# Altium integrated library TI Power Management Current Limited Switch.IntLib: 83 symbols (part 1 of 4)
Pins are listed as number, name and electrical type; pins without a type are passive.

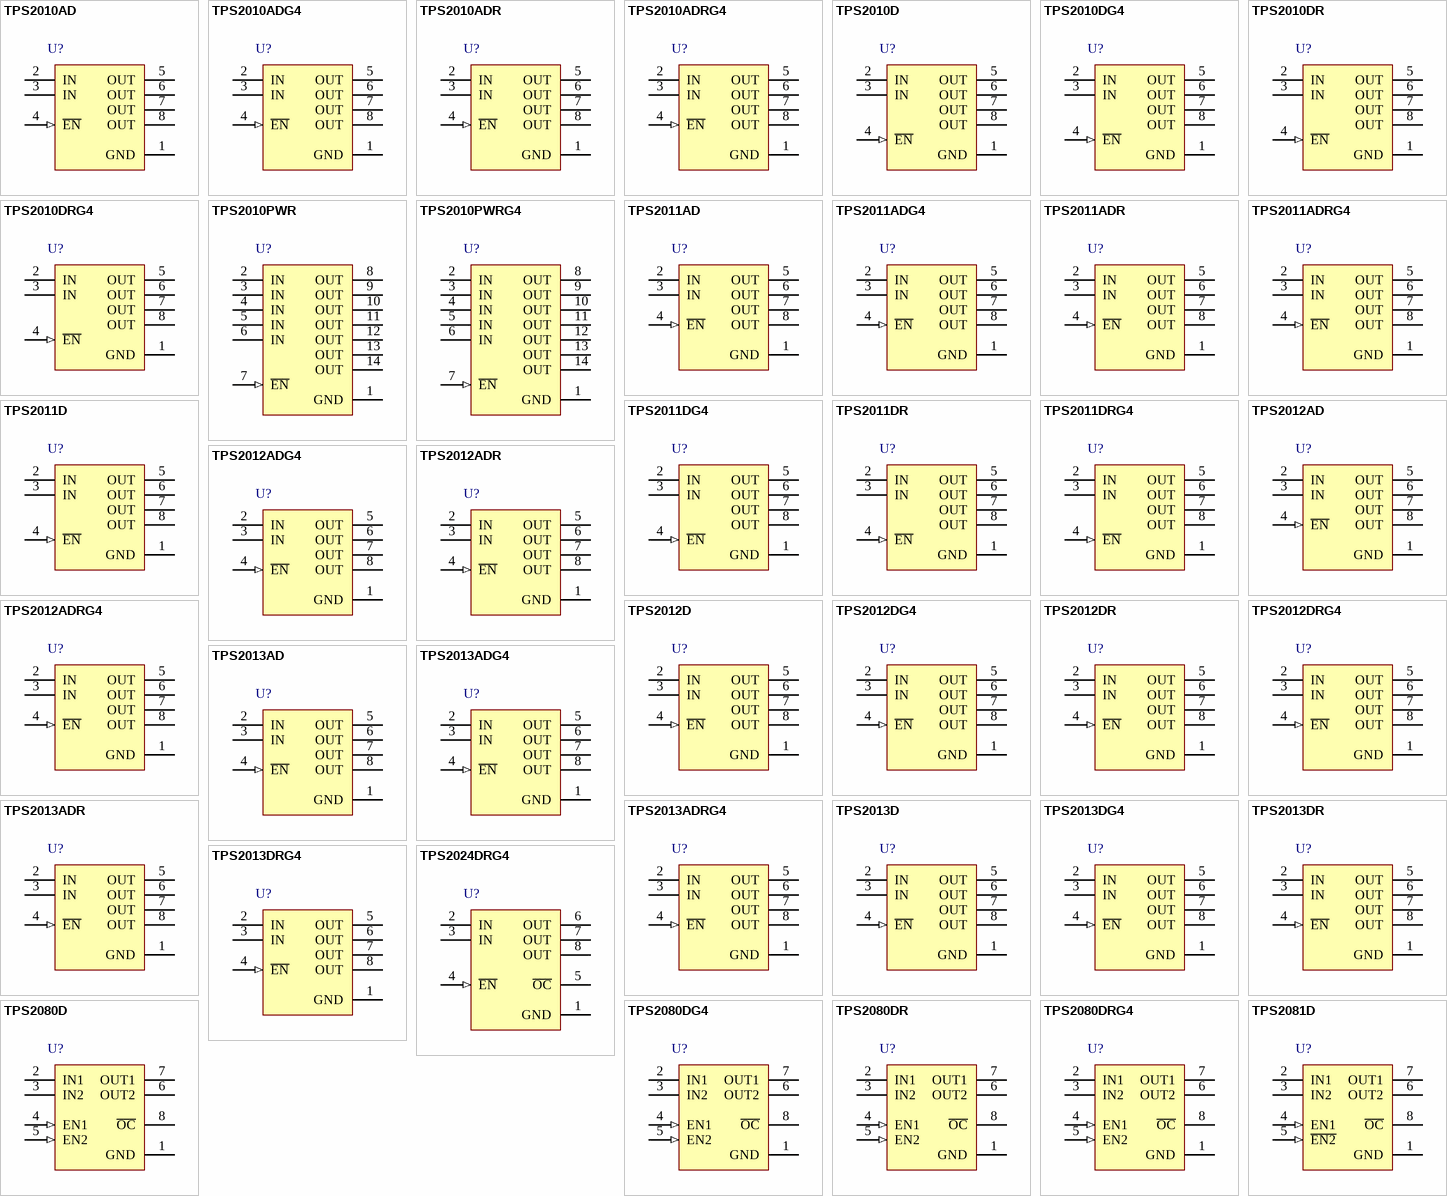
[diagram p0: symbols TPS2010AD to TPS2081D]

## TPS2010AD
designator U?
0.4 A, 2.7 to 5.5 V Single High-Side MOSFET Switch IC, No Fault Reporting, 30 mOhms rDS(on), -40 to 85 degC, 8-pin SOIC (D), Green (RoHS & no Sb/Br); Manufacturer: Texas Instruments; PartNumber: TPS2010AD; Adjustable Current Limit(Min)(A): 0.22; Enable/Shutdown: 1L; Iq(Typ)(uA): 73; No Fault Reporting: TRUE; Number of FETs: 1; rDS(on) per FET(Typ)(mOhms): 30; SubFamily: Current Limited Switch; Vin(Max)(V): 5.5; Vin(Min)(V): 2.7; DatasheetVersion: SLVS189C; PackageVersion: revM, Jun-2011; PackageReference: D8; PackageDescription: 8-Pin Plastic Small Outline Integrated Circuit, 4.9 x 3.9 mm, Pitch 1.27 mm Pitch; Supplier 1: Digi-Key; Supplier Part Number 1: 296-2555-5-ND; Supplier 2: Newark; Supplier Part Number 2: 93B6517; Supplier 3: Mouser; Supplier Part Number 3: 595-TPS2010AD; Eco-Plan: Green (RoHS & no Sb/Br); Single: TRUE; Mounting Technology: Surface Mount; Code_JEDEC: MS-012AA; ComponentLink1Description: Datasheet; ComponentLink1URL: http://www.ti.com/general/docs/lit/getliterature.tsp?genericPartNumber=TPS2010A&fileType=pdf
footprint D8_N (SOIC, 8-Leads, Body 4.9x3.9mm, Pitch 1.27mm, IPC Medium Density)
footprint D8_L (SOIC, 8-Leads, Body 4.9x3.9mm, Pitch 1.27mm, IPC High Density)
footprint D8_M (SOIC, 8-Leads, Body 4.9x3.9mm, Pitch 1.27mm, IPC Low Density)
pins: 1 GND (power) "Ground", 2 IN (power) "Input voltage", 3 IN (power) "Input voltage", 4 ~{EN} (in) "Enable input. Logic low turns on power switch.", 5 OUT (power) "Power-switch output", 6 OUT (power) "Power-switch output", 7 OUT (power) "Power-switch output", 8 OUT (power) "Power-switch output"

## TPS2010ADG4
designator U?
0.4 A, 2.7 to 5.5 V Single High-Side MOSFET Switch IC, No Fault Reporting, 30 mOhms rDS(on), 8-pin SOIC (D), Green (RoHS & no Sb/Br); Manufacturer: Texas Instruments; PartNumber: TPS2010ADG4; Adjustable Current Limit(Min)(A): 0.22; Enable/Shutdown: 1L; Iq(Typ)(uA): 73; No Fault Reporting: TRUE; Number of FETs: 1; rDS(on) per FET(Typ)(mOhms): 30; SubFamily: Current Limited Switch; Vin(Max)(V): 5.5; Vin(Min)(V): 2.7; DatasheetVersion: SLVS189C; PackageVersion: revM, Jun-2011; PackageReference: D8; PackageDescription: 8-Pin Plastic Small Outline Integrated Circuit, 4.9 x 3.9 mm, Pitch 1.27 mm Pitch; Supplier 1: Digi-Key; Supplier Part Number 1: TPS2010ADG4-ND; Supplier 2: Newark; Supplier Part Number 2: 58K6886; Supplier 3: Mouser; Supplier Part Number 3: 595-TPS2010ADG4; Eco-Plan: Green (RoHS & no Sb/Br); Single: TRUE; Mounting Technology: Surface Mount; Code_JEDEC: MS-012AA; ComponentLink1Description: Datasheet; ComponentLink1URL: http://www.ti.com/general/docs/lit/getliterature.tsp?genericPartNumber=TPS2010A&fileType=pdf
footprint D8_N (SOIC, 8-Leads, Body 4.9x3.9mm, Pitch 1.27mm, IPC Medium Density)
footprint D8_L (SOIC, 8-Leads, Body 4.9x3.9mm, Pitch 1.27mm, IPC High Density)
footprint D8_M (SOIC, 8-Leads, Body 4.9x3.9mm, Pitch 1.27mm, IPC Low Density)
pins: 1 GND (power) "Ground", 2 IN (power) "Input voltage", 3 IN (power) "Input voltage", 4 ~{EN} (in) "Enable input. Logic low turns on power switch.", 5 OUT (power) "Power-switch output", 6 OUT (power) "Power-switch output", 7 OUT (power) "Power-switch output", 8 OUT (power) "Power-switch output"

## TPS2010ADR
designator U?
0.4 A, 2.7 to 5.5 V Single High-Side MOSFET Switch IC, No Fault Reporting, 30 mOhms rDS(on), -40 to 85 degC, 8-pin SOIC (D), Green (RoHS & no Sb/Br); Manufacturer: Texas Instruments; PartNumber: TPS2010ADR; Adjustable Current Limit(Min)(A): 0.22; Enable/Shutdown: 1L; Iq(Typ)(uA): 73; No Fault Reporting: TRUE; Number of FETs: 1; rDS(on) per FET(Typ)(mOhms): 30; SubFamily: Current Limited Switch; Vin(Max)(V): 5.5; Vin(Min)(V): 2.7; DatasheetVersion: SLVS189C; PackageVersion: revM, Jun-2011; PackageReference: D8; PackageDescription: 8-Pin Plastic Small Outline Integrated Circuit, 4.9 x 3.9 mm, Pitch 1.27 mm Pitch; Supplier 1: Digi-Key; Supplier Part Number 1: TPS2010ADR-ND; Supplier 2: Newark; Supplier Part Number 2: 76C9939; Supplier 3: Mouser; Supplier Part Number 3: 595-TPS2010ADR; Eco-Plan: Green (RoHS & no Sb/Br); Single: TRUE; Mounting Technology: Surface Mount; Code_JEDEC: MS-012AA; ComponentLink1Description: Datasheet; ComponentLink1URL: http://www.ti.com/general/docs/lit/getliterature.tsp?genericPartNumber=TPS2010A&fileType=pdf
footprint D8_N (SOIC, 8-Leads, Body 4.9x3.9mm, Pitch 1.27mm, IPC Medium Density)
footprint D8_L (SOIC, 8-Leads, Body 4.9x3.9mm, Pitch 1.27mm, IPC High Density)
footprint D8_M (SOIC, 8-Leads, Body 4.9x3.9mm, Pitch 1.27mm, IPC Low Density)
pins: 1 GND (power) "Ground", 2 IN (power) "Input voltage", 3 IN (power) "Input voltage", 4 ~{EN} (in) "Enable input. Logic low turns on power switch.", 5 OUT (power) "Power-switch output", 6 OUT (power) "Power-switch output", 7 OUT (power) "Power-switch output", 8 OUT (power) "Power-switch output"

## TPS2010ADRG4
designator U?
0.4 A, 2.7 to 5.5 V Single High-Side MOSFET Switch IC, No Fault Reporting, 30 mOhms rDS(on), -40 to 85 degC, 8-pin SOIC (D), Green (RoHS & no Sb/Br); Manufacturer: Texas Instruments; PartNumber: TPS2010ADRG4; Adjustable Current Limit(Min)(A): 0.22; Enable/Shutdown: 1L; Iq(Typ)(uA): 73; No Fault Reporting: TRUE; Number of FETs: 1; rDS(on) per FET(Typ)(mOhms): 30; SubFamily: Current Limited Switch; Vin(Max)(V): 5.5; Vin(Min)(V): 2.7; DatasheetVersion: SLVS189C; PackageVersion: revM, Jun-2011; PackageReference: D8; PackageDescription: 8-Pin Plastic Small Outline Integrated Circuit, 4.9 x 3.9 mm, Pitch 1.27 mm Pitch; Supplier 1: Digi-Key; Supplier Part Number 1: TPS2010ADRG4-ND; Supplier 2: Newark; Supplier Part Number 2: 33K7505; Supplier 3: Mouser; Supplier Part Number 3: 595-TPS2010ADRG4; Eco-Plan: Green (RoHS & no Sb/Br); Single: TRUE; Mounting Technology: Surface Mount; Code_JEDEC: MS-012AA; ComponentLink1Description: Datasheet; ComponentLink1URL: http://www.ti.com/general/docs/lit/getliterature.tsp?genericPartNumber=TPS2010A&fileType=pdf
footprint D8_N (SOIC, 8-Leads, Body 4.9x3.9mm, Pitch 1.27mm, IPC Medium Density)
footprint D8_L (SOIC, 8-Leads, Body 4.9x3.9mm, Pitch 1.27mm, IPC High Density)
footprint D8_M (SOIC, 8-Leads, Body 4.9x3.9mm, Pitch 1.27mm, IPC Low Density)
pins: 1 GND (power) "Ground", 2 IN (power) "Input voltage", 3 IN (power) "Input voltage", 4 ~{EN} (in) "Enable input. Logic low turns on power switch.", 5 OUT (power) "Power-switch output", 6 OUT (power) "Power-switch output", 7 OUT (power) "Power-switch output", 8 OUT (power) "Power-switch output"

## TPS2010D
designator U?
0.4 A, 2.7 to 5.5 V Single High-Side MOSFET Switch IC, No Fault Reporting, 75 mOhms rDS(On), -40 to 85 degC, 8-pin SOIC (D), Green (RoHS & no Sb/Br); Manufacturer: Texas Instruments; PartNumber: TPS2010D; Adjustable Current Limit(Min)(A): 0.22; Enable/Shutdown: 1L; Iq(Typ)(uA): 73; No Fault Reporting: TRUE; Number of FETs: 1; rDS(on) per FET(Typ)(mOhms): 75; SubFamily: Current Limited Switch; Vin(Max)(V): 5.5; Vin(Min)(V): 2.7; DatasheetVersion: SLVS097A; PackageVersion: revM, Jun-2011; PackageReference: D8; PackageDescription: 8-Pin Plastic Small Outline Integrated Circuit, 4.9 x 3.9 mm, Pitch 1.27 mm Pitch; Supplier 1: Digi-Key; Supplier Part Number 1: 296-34581-5-ND; Supplier 2: Newark; Supplier Part Number 2: 52F2788; Supplier 3: Mouser; Supplier Part Number 3: 595-TPS2010D; Eco-Plan: Green (RoHS & no Sb/Br); Single: TRUE; Mounting Technology: Surface Mount; Code_JEDEC: MS-012AA; ComponentLink1Description: Datasheet; ComponentLink1URL: http://www.ti.com/general/docs/lit/getliterature.tsp?genericPartNumber=TPS2010&fileType=pdf
footprint D8_N (SOIC, 8-Leads, Body 4.9x3.9mm, Pitch 1.27mm, IPC Medium Density)
footprint D8_L (SOIC, 8-Leads, Body 4.9x3.9mm, Pitch 1.27mm, IPC High Density)
footprint D8_M (SOIC, 8-Leads, Body 4.9x3.9mm, Pitch 1.27mm, IPC Low Density)
pins: 1 GND (power) "Ground", 2 IN (power) "Input voltage", 3 IN (power) "Input voltage", 4 ~{EN} (in) "Enable input. Logic low turns power switch on.", 5 OUT (power) "Power-switch output", 6 OUT (power) "Power-switch output", 7 OUT (power) "Power-switch output", 8 OUT (power) "Power-switch output"

## TPS2010DG4
designator U?
0.4 A, 2.7 to 5.5 V Single High-Side MOSFET Switch IC, No Fault Reporting, 75 mOhms rDS(on), -40 to 85 degC, 8-pin SOIC (D), Green (RoHS & no Sb/Br); Manufacturer: Texas Instruments; PartNumber: TPS2010DG4; Adjustable Current Limit(Min)(A): 0.22; Enable/Shutdown: 1L; Iq(Typ)(uA): 73; No Fault Reporting: TRUE; Number of FETs: 1; rDS(on) per FET(Typ)(mOhms): 75; SubFamily: Current Limited Switch; Vin(Max)(V): 5.5; Vin(Min)(V): 2.7; DatasheetVersion: SLVS097A; PackageVersion: revM, Jun-2011; PackageReference: D8; PackageDescription: 8-Pin Plastic Small Outline Integrated Circuit, 4.9 x 3.9 mm, Pitch 1.27 mm Pitch; Supplier 1: Digi-Key; Supplier Part Number 1: TPS2010DG4-ND; Supplier 2: Newark; Supplier Part Number 2: 61K1862; Supplier 3: Mouser; Supplier Part Number 3: 595-TPS2010DG4; Eco-Plan: Green (RoHS & no Sb/Br); Single: TRUE; Mounting Technology: Surface Mount; Code_JEDEC: MS-012AA; ComponentLink1Description: Datasheet; ComponentLink1URL: http://www.ti.com/general/docs/lit/getliterature.tsp?genericPartNumber=TPS2010&fileType=pdf
footprint D8_N (SOIC, 8-Leads, Body 4.9x3.9mm, Pitch 1.27mm, IPC Medium Density)
footprint D8_L (SOIC, 8-Leads, Body 4.9x3.9mm, Pitch 1.27mm, IPC High Density)
footprint D8_M (SOIC, 8-Leads, Body 4.9x3.9mm, Pitch 1.27mm, IPC Low Density)
pins: 1 GND (power) "Ground", 2 IN (power) "Input voltage", 3 IN (power) "Input voltage", 4 ~{EN} (in) "Enable input. Logic low turns power switch on.", 5 OUT (power) "Power-switch output", 6 OUT (power) "Power-switch output", 7 OUT (power) "Power-switch output", 8 OUT (power) "Power-switch output"

## TPS2010DR
designator U?
0.4 A, 2.7 to 5.5 V Single High-Side MOSFET Switch IC, No Fault Reporting, 75 mOhms rDS(On), -40 to 85 degC, 8-pin SOIC (D), Green (RoHS & no Sb/Br); Manufacturer: Texas Instruments; PartNumber: TPS2010DR; Adjustable Current Limit(Min)(A): 0.22; Enable/Shutdown: 1L; Iq(Typ)(uA): 73; No Fault Reporting: TRUE; Number of FETs: 1; rDS(on) per FET(Typ)(mOhms): 75; SubFamily: Current Limited Switch; Vin(Max)(V): 5.5; Vin(Min)(V): 2.7; DatasheetVersion: SLVS097A; PackageVersion: revM, Jun-2011; PackageReference: D8; PackageDescription: 8-Pin Plastic Small Outline Integrated Circuit, 4.9 x 3.9 mm, Pitch 1.27 mm Pitch; Supplier 1: Digi-Key; Supplier Part Number 1: TPS2010DR-ND; Supplier 2: Newark; Supplier Part Number 2: 76C9942; Supplier 3: Mouser; Supplier Part Number 3: 595-TPS2010DR; Eco-Plan: Green (RoHS & no Sb/Br); Single: TRUE; Mounting Technology: Surface Mount; Code_JEDEC: MS-012AA; ComponentLink1Description: Datasheet; ComponentLink1URL: http://www.ti.com/general/docs/lit/getliterature.tsp?genericPartNumber=TPS2010&fileType=pdf
footprint D8_N (SOIC, 8-Leads, Body 4.9x3.9mm, Pitch 1.27mm, IPC Medium Density)
footprint D8_L (SOIC, 8-Leads, Body 4.9x3.9mm, Pitch 1.27mm, IPC High Density)
footprint D8_M (SOIC, 8-Leads, Body 4.9x3.9mm, Pitch 1.27mm, IPC Low Density)
pins: 1 GND (power) "Ground", 2 IN (power) "Input voltage", 3 IN (power) "Input voltage", 4 ~{EN} (in) "Enable input. Logic low turns power switch on.", 5 OUT (power) "Power-switch output", 6 OUT (power) "Power-switch output", 7 OUT (power) "Power-switch output", 8 OUT (power) "Power-switch output"

## TPS2010DRG4
designator U?
0.4 A, 2.7 to 5.5 V Single High-Side MOSFET Switch IC, No Fault Reporting, 75 mOhms rDS(on), -40 to 85 degC, 8-pin SOIC (D), Green (RoHS & no Sb/Br); Manufacturer: Texas Instruments; PartNumber: TPS2010DRG4; Adjustable Current Limit(Min)(A): 0.22; Enable/Shutdown: 1L; Iq(Typ)(uA): 73; No Fault Reporting: TRUE; Number of FETs: 1; rDS(on) per FET(Typ)(mOhms): 75; SubFamily: Current Limited Switch; Vin(Max)(V): 5.5; Vin(Min)(V): 2.7; DatasheetVersion: SLVS097A; PackageVersion: revM, Jun-2011; PackageReference: D8; PackageDescription: 8-Pin Plastic Small Outline Integrated Circuit, 4.9 x 3.9 mm, Pitch 1.27 mm Pitch; Supplier 1: Digi-Key; Supplier Part Number 1: TPS2010DRG4-ND; Supplier 2: Newark; Supplier Part Number 2: 08K4926; Supplier 3: Mouser; Supplier Part Number 3: 595-TPS2010DRG4; Eco-Plan: Green (RoHS & no Sb/Br); Single: TRUE; Mounting Technology: Surface Mount; Code_JEDEC: MS-012AA; ComponentLink1Description: Datasheet; ComponentLink1URL: http://www.ti.com/general/docs/lit/getliterature.tsp?genericPartNumber=TPS2010&fileType=pdf
footprint D8_N (SOIC, 8-Leads, Body 4.9x3.9mm, Pitch 1.27mm, IPC Medium Density)
footprint D8_L (SOIC, 8-Leads, Body 4.9x3.9mm, Pitch 1.27mm, IPC High Density)
footprint D8_M (SOIC, 8-Leads, Body 4.9x3.9mm, Pitch 1.27mm, IPC Low Density)
pins: 1 GND (power) "Ground", 2 IN (power) "Input voltage", 3 IN (power) "Input voltage", 4 ~{EN} (in) "Enable input. Logic low turns power switch on.", 5 OUT (power) "Power-switch output", 6 OUT (power) "Power-switch output", 7 OUT (power) "Power-switch output", 8 OUT (power) "Power-switch output"

## TPS2010PWR
designator U?
0.4 A, 2.7 to 5.5 V Single High-Side MOSFET Switch IC, No Fault Reporting, 75 mOhms rDS(on), -40 to 85 degC, 14-pin TSSOP (PW), Green (RoHS & no Sb/Br); Manufacturer: Texas Instruments; PartNumber: TPS2010PWR; Adjustable Current Limit(Min)(A): 0.22; Enable/Shutdown: 1L; Iq(Typ)(uA): 73; No Fault Reporting: TRUE; Number of FETs: 1; rDS(on) per FET(Typ)(mOhms): 75; SubFamily: Current Limited Switch; Vin(Max)(V): 5.5; Vin(Min)(V): 2.7; DatasheetVersion: SLVS097A; PackageVersion: revG, Feb-2011; PackageReference: PW14; PackageDescription: 14-Pin Thin Small Outline Package 0.65 mm Pitch; Supplier 1: Digi-Key; Supplier Part Number 1: 296-3385-2-ND; Supplier 2: Digi-Key; Supplier Part Number 2: 296-3385-1-ND; Supplier 3: Digi-Key; Supplier Part Number 3: 296-3385-6-ND; Supplier 4: Newark; Supplier Part Number 4: 76C9943; Supplier 5: Mouser; Supplier Part Number 5: 595-TPS2010PWR; Eco-Plan: Green (RoHS & no Sb/Br); Single: TRUE; Mounting Technology: Surface Mount; Code_JEDEC: MO-153; ComponentLink1Description: Datasheet; ComponentLink1URL: http://www.ti.com/general/docs/lit/getliterature.tsp?genericPartNumber=TPS2010&fileType=pdf
footprint PW14_N (TSOP, 14-Leads, Body 5x4.4mm, Pitch 0.65mm, IPC Medium Density)
footprint PW14_L (TSOP, 14-Leads, Body 5x4.4mm, Pitch 0.65mm, IPC High Density)
footprint PW14_M (TSOP, 14-Leads, Body 5x4.4mm, Pitch 0.65mm, IPC Low Density)
pins: 1 GND (power) "Ground", 2 IN (power) "Input voltage", 3 IN (power) "Input voltage", 4 IN (power) "Input voltage", 5 IN (power) "Input voltage", 6 IN (power) "Input voltage", 7 ~{EN} (in) "Enable input. Logic low turns power switch on", 8 OUT (power) "Power-switch output", 9 OUT (power) "Power-switch output", 10 OUT (power) "Power-switch output", 11 OUT (power) "Power-switch output", 12 OUT (power) "Power-switch output", 13 OUT (power) "Power-switch output", 14 OUT (power) "Power-switch output"

## TPS2010PWRG4
designator U?
0.4 A, 2.7 to 5.5 V Single High-Side MOSFET Switch IC, No Fault Reporting, 75 mOhms rDS(On), -40 to 85 degC, 14-pin TSSOP (PW), Green (RoHS & no Sb/Br); Manufacturer: Texas Instruments; PartNumber: TPS2010PWRG4; Adjustable Current Limit(Min)(A): 0.22; Enable/Shutdown: 1L; Iq(Typ)(uA): 73; No Fault Reporting: TRUE; Number of FETs: 1; rDS(on) per FET(Typ)(mOhms): 75; SubFamily: Current Limited Switch; Vin(Max)(V): 5.5; Vin(Min)(V): 2.7; DatasheetVersion: SLVS097A; PackageVersion: revG, Feb-2011; PackageReference: PW14; PackageDescription: 14-Pin Thin Small Outline Package 0.65 mm Pitch; Supplier 1: Digi-Key; Supplier Part Number 1: TPS2010PWRG4-ND; Supplier 2: Newark; Supplier Part Number 2: 54K1519; Supplier 3: Mouser; Supplier Part Number 3: 595-TPS2010PWRG4; Eco-Plan: Green (RoHS & no Sb/Br); Single: TRUE; Mounting Technology: Surface Mount; Code_JEDEC: MO-153; ComponentLink1Description: Datasheet; ComponentLink1URL: http://www.ti.com/general/docs/lit/getliterature.tsp?genericPartNumber=TPS2010&fileType=pdf
footprint PW14_N (TSOP, 14-Leads, Body 5x4.4mm, Pitch 0.65mm, IPC Medium Density)
footprint PW14_L (TSOP, 14-Leads, Body 5x4.4mm, Pitch 0.65mm, IPC High Density)
footprint PW14_M (TSOP, 14-Leads, Body 5x4.4mm, Pitch 0.65mm, IPC Low Density)
pins: 1 GND (power) "Ground", 2 IN (power) "Input voltage", 3 IN (power) "Input voltage", 4 IN (power) "Input voltage", 5 IN (power) "Input voltage", 6 IN (power) "Input voltage", 7 ~{EN} (in) "Enable input. Logic low turns power switch on", 8 OUT (power) "Power-switch output", 9 OUT (power) "Power-switch output", 10 OUT (power) "Power-switch output", 11 OUT (power) "Power-switch output", 12 OUT (power) "Power-switch output", 13 OUT (power) "Power-switch output", 14 OUT (power) "Power-switch output"

## TPS2011AD
designator U?
1.2 A, 2.7 to 5.5 V Single High-Side MOSFET Switch IC, No Fault Reporting, 30 mOhms rDS(on), -40 to 85 degC, 8-pin SOIC (D), Green (RoHS & no Sb/Br); Manufacturer: Texas Instruments; PartNumber: TPS2011AD; Adjustable Current Limit(Min)(A): 0.66; Enable/Shutdown: 1L; Iq(Typ)(uA): 73; No Fault Reporting: TRUE; Number of FETs: 1; rDS(on) per FET(Typ)(mOhms): 30; SubFamily: Current Limited Switch; Vin(Max)(V): 5.5; Vin(Min)(V): 2.7; DatasheetVersion: SLVS189C; PackageVersion: revM, Jun-2011; PackageReference: D8; PackageDescription: 8-Pin Plastic Small Outline Integrated Circuit, 4.9 x 3.9 mm, Pitch 1.27 mm Pitch; Supplier 1: Digi-Key; Supplier Part Number 1: 296-2556-5-ND; Supplier 2: Farnell; Supplier Part Number 2: 1510479; Supplier 3: Newark; Supplier Part Number 3: 44J2491; Supplier 4: Mouser; Supplier Part Number 4: 595-TPS2011AD; Eco-Plan: Green (RoHS & no Sb/Br); Single: TRUE; Mounting Technology: Surface Mount; Code_JEDEC: MS-012AA; ComponentLink1Description: Datasheet; ComponentLink1URL: http://www.ti.com/general/docs/lit/getliterature.tsp?genericPartNumber=TPS2011A&fileType=pdf
footprint D8_N (SOIC, 8-Leads, Body 4.9x3.9mm, Pitch 1.27mm, IPC Medium Density)
footprint D8_L (SOIC, 8-Leads, Body 4.9x3.9mm, Pitch 1.27mm, IPC High Density)
footprint D8_M (SOIC, 8-Leads, Body 4.9x3.9mm, Pitch 1.27mm, IPC Low Density)
pins: 1 GND (power) "Ground", 2 IN (power) "Input voltage", 3 IN (power) "Input voltage", 4 ~{EN} (in) "Enable input. Logic low turns on power switch", 5 OUT (power) "Power-switch output", 6 OUT (power) "Power-switch output", 7 OUT (power) "Power-switch output", 8 OUT (power) "Power-switch output"

## TPS2011ADG4
designator U?
1.2 A, 2.7 to 5.5 V Single High-Side MOSFET Switch IC, No Fault Reporting, 30 mOhms rDS(on), -40 to 85 degC, 8-pin SOIC (D), Green (RoHS & no Sb/Br); Manufacturer: Texas Instruments; PartNumber: TPS2011ADG4; Adjustable Current Limit(Min)(A): 0.66; Enable/Shutdown: 1L; Iq(Typ)(uA): 73; No Fault Reporting: TRUE; Number of FETs: 1; rDS(on) per FET(Typ)(mOhms): 30; SubFamily: Current Limited Switch; Vin(Max)(V): 5.5; Vin(Min)(V): 2.7; DatasheetVersion: SLVS189C; PackageVersion: revM, Jun-2011; PackageReference: D8; PackageDescription: 8-Pin Plastic Small Outline Integrated Circuit, 4.9 x 3.9 mm, Pitch 1.27 mm Pitch; Supplier 1: Digi-Key; Supplier Part Number 1: TPS2011ADG4-ND; Supplier 2: Newark; Supplier Part Number 2: 54K1520; Supplier 3: Mouser; Supplier Part Number 3: 595-TPS2011ADG4; Eco-Plan: Green (RoHS & no Sb/Br); Single: TRUE; Mounting Technology: Surface Mount; Code_JEDEC: MS-012AA; ComponentLink1Description: Datasheet; ComponentLink1URL: http://www.ti.com/general/docs/lit/getliterature.tsp?genericPartNumber=TPS2011A&fileType=pdf
footprint D8_N (SOIC, 8-Leads, Body 4.9x3.9mm, Pitch 1.27mm, IPC Medium Density)
footprint D8_L (SOIC, 8-Leads, Body 4.9x3.9mm, Pitch 1.27mm, IPC High Density)
footprint D8_M (SOIC, 8-Leads, Body 4.9x3.9mm, Pitch 1.27mm, IPC Low Density)
pins: 1 GND (power) "Ground", 2 IN (power) "Input voltage", 3 IN (power) "Input voltage", 4 ~{EN} (in) "Enable input. Logic low turns on power switch", 5 OUT (power) "Power-switch output", 6 OUT (power) "Power-switch output", 7 OUT (power) "Power-switch output", 8 OUT (power) "Power-switch output"

## TPS2011ADR
designator U?
1.2 A, 2.7 to 5.5 V Single High-Side MOSFET Switch IC, No Fault Reporting, 30 mOhms rDS(On), -40 to 85 degC, 8-pin SOIC (D), Green (RoHS & no Sb/Br); Manufacturer: Texas Instruments; PartNumber: TPS2011ADR; Adjustable Current Limit(Min)(A): 0.66; Enable/Shutdown: 1L; Iq(Typ)(uA): 73; No Fault Reporting: TRUE; Number of FETs: 1; rDS(on) per FET(Typ)(mOhms): 30; SubFamily: Current Limited Switch; Vin(Max)(V): 5.5; Vin(Min)(V): 2.7; DatasheetVersion: SLVS189C; PackageVersion: revM, Jun-2011; PackageReference: D8; PackageDescription: 8-Pin Plastic Small Outline Integrated Circuit, 4.9 x 3.9 mm, Pitch 1.27 mm Pitch; Supplier 1: Digi-Key; Supplier Part Number 1: 296-31978-2-ND; Supplier 2: Digi-Key; Supplier Part Number 2: 296-31978-1-ND; Supplier 3: Digi-Key; Supplier Part Number 3: 296-31978-6-ND; Supplier 4: Newark; Supplier Part Number 4: 76C9944; Supplier 5: Mouser; Supplier Part Number 5: 595-TPS2011ADR; Eco-Plan: Green (RoHS & no Sb/Br); Single: TRUE; Mounting Technology: Surface Mount; Code_JEDEC: MS-012AA; ComponentLink1Description: Datasheet; ComponentLink1URL: http://www.ti.com/general/docs/lit/getliterature.tsp?genericPartNumber=TPS2011A&fileType=pdf
footprint D8_N (SOIC, 8-Leads, Body 4.9x3.9mm, Pitch 1.27mm, IPC Medium Density)
footprint D8_L (SOIC, 8-Leads, Body 4.9x3.9mm, Pitch 1.27mm, IPC High Density)
footprint D8_M (SOIC, 8-Leads, Body 4.9x3.9mm, Pitch 1.27mm, IPC Low Density)
pins: 1 GND (power) "Ground", 2 IN (power) "Input voltage", 3 IN (power) "Input voltage", 4 ~{EN} (in) "Enable input. Logic low turns on power switch", 5 OUT (power) "Power-switch output", 6 OUT (power) "Power-switch output", 7 OUT (power) "Power-switch output", 8 OUT (power) "Power-switch output"

## TPS2011ADRG4
designator U?
1.2 A, 2.7 to 5.5 V Single High-Side MOSFET Switch IC, No Fault Reporting, 30 mOhms rDS(on), -40 to 85 degC, 8-pin SOIC (D), Green (RoHS & no Sb/Br); Manufacturer: Texas Instruments; PartNumber: TPS2011ADRG4; Adjustable Current Limit(Min)(A): 0.66; Enable/Shutdown: 1L; Iq(Typ)(uA): 73; No Fault Reporting: TRUE; Number of FETs: 1; rDS(on) per FET(Typ)(mOhms): 30; SubFamily: Current Limited Switch; Vin(Max)(V): 5.5; Vin(Min)(V): 2.7; DatasheetVersion: SLVS189C; PackageVersion: revM, Jun-2011; PackageReference: D8; PackageDescription: 8-Pin Plastic Small Outline Integrated Circuit, 4.9 x 3.9 mm, Pitch 1.27 mm Pitch; Supplier 1: Digi-Key; Supplier Part Number 1: TPS2011ADRG4-ND; Supplier 2: Newark; Supplier Part Number 2: 54K1521; Supplier 3: Mouser; Supplier Part Number 3: 595-TPS2011ADRG4; Eco-Plan: Green (RoHS & no Sb/Br); Single: TRUE; Mounting Technology: Surface Mount; Code_JEDEC: MS-012AA; ComponentLink1Description: Datasheet; ComponentLink1URL: http://www.ti.com/general/docs/lit/getliterature.tsp?genericPartNumber=TPS2011A&fileType=pdf
footprint D8_N (SOIC, 8-Leads, Body 4.9x3.9mm, Pitch 1.27mm, IPC Medium Density)
footprint D8_L (SOIC, 8-Leads, Body 4.9x3.9mm, Pitch 1.27mm, IPC High Density)
footprint D8_M (SOIC, 8-Leads, Body 4.9x3.9mm, Pitch 1.27mm, IPC Low Density)
pins: 1 GND (power) "Ground", 2 IN (power) "Input voltage", 3 IN (power) "Input voltage", 4 ~{EN} (in) "Enable input. Logic low turns on power switch", 5 OUT (power) "Power-switch output", 6 OUT (power) "Power-switch output", 7 OUT (power) "Power-switch output", 8 OUT (power) "Power-switch output"

## TPS2011D
designator U?
1.2 A, 2.7 to 5.5 V Single High-Side MOSFET Switch IC, No Fault Reporting, 75 mOhms rDS(On), -40 to 125 degC, 8-pin SOIC (D), Green (RoHS & no Sb/Br); Manufacturer: Texas Instruments; PartNumber: TPS2011D; Adjustable Current Limit(Min)(A): 0.66; Enable/Shutdown: 1L; Iq(Typ)(uA): 73; No Fault Reporting: TRUE; Number of FETs: 1; rDS(on) per FET(Typ)(mOhms): 75; SubFamily: Current Limited Switch; Vin(Max)(V): 5.5; Vin(Min)(V): 2.7; DatasheetVersion: SLVS097A; PackageVersion: revM, Jun-2011; PackageReference: D8; PackageDescription: 8-Pin Plastic Small Outline Integrated Circuit, 4.9 x 3.9 mm, Pitch 1.27 mm Pitch; Supplier 1: Digi-Key; Supplier Part Number 1: 296-3386-5-ND; Supplier 2: Newark; Supplier Part Number 2: 52F2789; Supplier 3: Mouser; Supplier Part Number 3: 595-TPS2011D; Eco-Plan: Green (RoHS & no Sb/Br); Single: TRUE; Mounting Technology: Surface Mount; Code_JEDEC: MS-012AA; ComponentLink1Description: Datasheet; ComponentLink1URL: http://www.ti.com/general/docs/lit/getliterature.tsp?genericPartNumber=TPS2011&fileType=pdf
footprint D8_N (SOIC, 8-Leads, Body 4.9x3.9mm, Pitch 1.27mm, IPC Medium Density)
footprint D8_L (SOIC, 8-Leads, Body 4.9x3.9mm, Pitch 1.27mm, IPC High Density)
footprint D8_M (SOIC, 8-Leads, Body 4.9x3.9mm, Pitch 1.27mm, IPC Low Density)
pins: 1 GND (power) "Ground", 2 IN (power) "Input voltage", 3 IN (power) "Input voltage", 4 ~{EN} (in) "Enable input. Logic low turns power switch on", 5 OUT (power) "Power-switch output", 6 OUT (power) "Power-switch output", 7 OUT (power) "Power-switch output", 8 OUT (power) "Power-switch output"

## TPS2011DG4
designator U?
1.2 A, 2.7 to 5.5 V Single High-Side MOSFET Switch IC, No Fault Reporting, 75 mOhms rDS(On), -40 to 125 degC, 8-pin SOIC (D), Green (RoHS & no Sb/Br); Manufacturer: Texas Instruments; PartNumber: TPS2011DG4; Adjustable Current Limit(Min)(A): 0.66; Enable/Shutdown: 1L; Iq(Typ)(uA): 73; No Fault Reporting: TRUE; Number of FETs: 1; rDS(on) per FET(Typ)(mOhms): 75; SubFamily: Current Limited Switch; Vin(Max)(V): 5.5; Vin(Min)(V): 2.7; DatasheetVersion: SLVS097A; PackageVersion: revM, Jun-2011; PackageReference: D8; PackageDescription: 8-Pin Plastic Small Outline Integrated Circuit, 4.9 x 3.9 mm, Pitch 1.27 mm Pitch; Supplier 1: Digi-Key; Supplier Part Number 1: TPS2011DG4-ND; Supplier 2: Newark; Supplier Part Number 2: 81K4129; Supplier 3: Mouser; Supplier Part Number 3: 595-TPS2011DG4; Eco-Plan: Green (RoHS & no Sb/Br); Single: TRUE; Mounting Technology: Surface Mount; Code_JEDEC: MS-012AA; ComponentLink1Description: Datasheet; ComponentLink1URL: http://www.ti.com/general/docs/lit/getliterature.tsp?genericPartNumber=TPS2011&fileType=pdf
footprint D8_N (SOIC, 8-Leads, Body 4.9x3.9mm, Pitch 1.27mm, IPC Medium Density)
footprint D8_L (SOIC, 8-Leads, Body 4.9x3.9mm, Pitch 1.27mm, IPC High Density)
footprint D8_M (SOIC, 8-Leads, Body 4.9x3.9mm, Pitch 1.27mm, IPC Low Density)
pins: 1 GND (power) "Ground", 2 IN (power) "Input voltage", 3 IN (power) "Input voltage", 4 ~{EN} (in) "Enable input. Logic low turns power switch on", 5 OUT (power) "Power-switch output", 6 OUT (power) "Power-switch output", 7 OUT (power) "Power-switch output", 8 OUT (power) "Power-switch output"

## TPS2011DR
designator U?
1.2 A, 2.7 to 5.5 V Single High-Side MOSFET Switch IC, No Fault Reporting, 75 mOhms rDS(On), -40 to 125 degC, 8-pin SOIC (D), Green (RoHS & no Sb/Br); Manufacturer: Texas Instruments; PartNumber: TPS2011DR; Adjustable Current Limit(Min)(A): 0.66; Enable/Shutdown: 1L; Iq(Typ)(uA): 73; No Fault Reporting: TRUE; Number of FETs: 1; rDS(on) per FET(Typ)(mOhms): 75; SubFamily: Current Limited Switch; Vin(Max)(V): 5.5; Vin(Min)(V): 2.7; DatasheetVersion: SLVS097A; PackageVersion: revM, Jun-2011; PackageReference: D8; PackageDescription: 8-Pin Plastic Small Outline Integrated Circuit, 4.9 x 3.9 mm, Pitch 1.27 mm Pitch; Supplier 1: Digi-Key; Supplier Part Number 1: TPS2011DR-ND; Supplier 2: Newark; Supplier Part Number 2: 76C9947; Supplier 3: Mouser; Supplier Part Number 3: 595-TPS2011DR; Eco-Plan: Green (RoHS & no Sb/Br); Single: TRUE; Mounting Technology: Surface Mount; Code_JEDEC: MS-012AA; ComponentLink1Description: Datasheet; ComponentLink1URL: http://www.ti.com/general/docs/lit/getliterature.tsp?genericPartNumber=TPS2011&fileType=pdf
footprint D8_N (SOIC, 8-Leads, Body 4.9x3.9mm, Pitch 1.27mm, IPC Medium Density)
footprint D8_L (SOIC, 8-Leads, Body 4.9x3.9mm, Pitch 1.27mm, IPC High Density)
footprint D8_M (SOIC, 8-Leads, Body 4.9x3.9mm, Pitch 1.27mm, IPC Low Density)
pins: 1 GND (power) "Ground", 2 IN (power) "Input voltage", 3 IN (power) "Input voltage", 4 ~{EN} (in) "Enable input. Logic low turns power switch on", 5 OUT (power) "Power-switch output", 6 OUT (power) "Power-switch output", 7 OUT (power) "Power-switch output", 8 OUT (power) "Power-switch output"

## TPS2011DRG4
designator U?
1.2 A, 2.7 to 5.5 V Single High-Side MOSFET Switch IC, No Fault Reporting, 75 mOhms rDS(On), -40 to 125 degC, 8-pin SOIC (D), Green (RoHS & no Sb/Br); Manufacturer: Texas Instruments; PartNumber: TPS2011DRG4; Adjustable Current Limit(Min)(A): 0.66; Enable/Shutdown: 1L; Iq(Typ)(uA): 73; No Fault Reporting: TRUE; Number of FETs: 1; rDS(on) per FET(Typ)(mOhms): 75; SubFamily: Current Limited Switch; Vin(Max)(V): 5.5; Vin(Min)(V): 2.7; DatasheetVersion: SLVS097A; PackageVersion: revM, Jun-2011; PackageReference: D8; PackageDescription: 8-Pin Plastic Small Outline Integrated Circuit, 4.9 x 3.9 mm, Pitch 1.27 mm Pitch; Supplier 1: Digi-Key; Supplier Part Number 1: TPS2011DRG4-ND; Supplier 2: Newark; Supplier Part Number 2: 33K7506; Supplier 3: Mouser; Supplier Part Number 3: 595-TPS2011DRG4; Eco-Plan: Green (RoHS & no Sb/Br); Single: TRUE; Mounting Technology: Surface Mount; Code_JEDEC: MS-012AA; ComponentLink1Description: Datasheet; ComponentLink1URL: http://www.ti.com/general/docs/lit/getliterature.tsp?genericPartNumber=TPS2011&fileType=pdf
footprint D8_N (SOIC, 8-Leads, Body 4.9x3.9mm, Pitch 1.27mm, IPC Medium Density)
footprint D8_L (SOIC, 8-Leads, Body 4.9x3.9mm, Pitch 1.27mm, IPC High Density)
footprint D8_M (SOIC, 8-Leads, Body 4.9x3.9mm, Pitch 1.27mm, IPC Low Density)
pins: 1 GND (power) "Ground", 2 IN (power) "Input voltage", 3 IN (power) "Input voltage", 4 ~{EN} (in) "Enable input. Logic low turns power switch on", 5 OUT (power) "Power-switch output", 6 OUT (power) "Power-switch output", 7 OUT (power) "Power-switch output", 8 OUT (power) "Power-switch output"

## TPS2012AD
designator U?
2.0 A, 2.7 to 5.5 V Single High-Side MOSFET Switch IC, No Fault Reporting, 30 mOhms rDS(On), -40 to 85 degC, 8-pin SOIC (D), Green (RoHS & no Sb/Br); Manufacturer: Texas Instruments; PartNumber: TPS2012AD; Adjustable Current Limit(Min)(A): 1.1; Enable/Shutdown: 1L; Iq(Typ)(uA): 73; No Fault Reporting: TRUE; Number of FETs: 1; rDS(on) per FET(Typ)(mOhms): 30; SubFamily: Current Limited Switch; Vin(Max)(V): 5.5; Vin(Min)(V): 2.7; DatasheetVersion: SLVS189C; PackageVersion: revM, Jun-2011; PackageReference: D8; PackageDescription: 8-Pin Plastic Small Outline Integrated Circuit, 4.9 x 3.9 mm, Pitch 1.27 mm Pitch; Supplier 1: Digi-Key; Supplier Part Number 1: 296-2557-5-ND; Supplier 2: Newark; Supplier Part Number 2: 93B6523; Supplier 3: Mouser; Supplier Part Number 3: 595-TPS2012AD; Eco-Plan: Green (RoHS & no Sb/Br); Single: TRUE; Mounting Technology: Surface Mount; Code_JEDEC: MS-012AA; ComponentLink1Description: Datasheet; ComponentLink1URL: http://www.ti.com/general/docs/lit/getliterature.tsp?genericPartNumber=TPS2012A&fileType=pdf
footprint D8_N (SOIC, 8-Leads, Body 4.9x3.9mm, Pitch 1.27mm, IPC Medium Density)
footprint D8_L (SOIC, 8-Leads, Body 4.9x3.9mm, Pitch 1.27mm, IPC High Density)
footprint D8_M (SOIC, 8-Leads, Body 4.9x3.9mm, Pitch 1.27mm, IPC Low Density)
pins: 1 GND (power) "Ground", 2 IN (power) "Input voltage", 3 IN (power) "Input voltage", 4 ~{EN} (in) "Enable input. Logic low turns on power switch", 5 OUT (power) "Power-switch output", 6 OUT (power) "Power-switch output", 7 OUT (power) "Power-switch output", 8 OUT (power) "Power-switch output"

## TPS2012ADG4
designator U?
2.0 A, 2.7 to 5.5 V Single High-Side MOSFET Switch IC, No Fault Reporting, 30 mOhms rDS(on), -40 to 85 degC, 8-pin SOIC (D), Green (RoHS & no Sb/Br); Manufacturer: Texas Instruments; PartNumber: TPS2012ADG4; Adjustable Current Limit(Min)(A): 1.1; Enable/Shutdown: 1L; Iq(Typ)(uA): 73; No Fault Reporting: TRUE; Number of FETs: 1; rDS(on) per FET(Typ)(mOhms): 30; SubFamily: Current Limited Switch; Vin(Max)(V): 5.5; Vin(Min)(V): 2.7; DatasheetVersion: SLVS189C; PackageVersion: revM, Jun-2011; PackageReference: D8; PackageDescription: 8-Pin Plastic Small Outline Integrated Circuit, 4.9 x 3.9 mm, Pitch 1.27 mm Pitch; Supplier 1: Digi-Key; Supplier Part Number 1: TPS2012ADG4-ND; Supplier 2: Newark; Supplier Part Number 2: 73K9580; Supplier 3: Mouser; Supplier Part Number 3: 595-TPS2012ADG4; Eco-Plan: Green (RoHS & no Sb/Br); Single: TRUE; Mounting Technology: Surface Mount; Code_JEDEC: MS-012AA; ComponentLink1Description: Datasheet; ComponentLink1URL: http://www.ti.com/general/docs/lit/getliterature.tsp?genericPartNumber=TPS2012A&fileType=pdf
footprint D8_N (SOIC, 8-Leads, Body 4.9x3.9mm, Pitch 1.27mm, IPC Medium Density)
footprint D8_L (SOIC, 8-Leads, Body 4.9x3.9mm, Pitch 1.27mm, IPC High Density)
footprint D8_M (SOIC, 8-Leads, Body 4.9x3.9mm, Pitch 1.27mm, IPC Low Density)
pins: 1 GND (power) "Ground", 2 IN (power) "Input voltage", 3 IN (power) "Input voltage", 4 ~{EN} (in) "Enable input. Logic low turns on power switch", 5 OUT (power) "Power-switch output", 6 OUT (power) "Power-switch output", 7 OUT (power) "Power-switch output", 8 OUT (power) "Power-switch output"

## TPS2012ADR
designator U?
2.0 A, 2.7 to 5.5 V Single High-Side MOSFET Switch IC, No Fault Reporting, 30 mOhms rDS(On), -40 to 85 degC, 8-pin SOIC (D), Green (RoHS & no Sb/Br); Manufacturer: Texas Instruments; PartNumber: TPS2012ADR; Adjustable Current Limit(Min)(A): 1.1; Enable/Shutdown: 1L; Iq(Typ)(uA): 73; No Fault Reporting: TRUE; Number of FETs: 1; rDS(on) per FET(Typ)(mOhms): 30; SubFamily: Current Limited Switch; Vin(Max)(V): 5.5; Vin(Min)(V): 2.7; DatasheetVersion: SLVS189C; PackageVersion: revM, Jun-2011; PackageReference: D8; PackageDescription: 8-Pin Plastic Small Outline Integrated Circuit, 4.9 x 3.9 mm, Pitch 1.27 mm Pitch; Supplier 1: Digi-Key; Supplier Part Number 1: TPS2012ADR-ND; Supplier 2: Newark; Supplier Part Number 2: 76C9948; Supplier 3: Mouser; Supplier Part Number 3: 595-TPS2012ADR; Eco-Plan: Green (RoHS & no Sb/Br); Single: TRUE; Mounting Technology: Surface Mount; Code_JEDEC: MS-012AA; ComponentLink1Description: Datasheet; ComponentLink1URL: http://www.ti.com/general/docs/lit/getliterature.tsp?genericPartNumber=TPS2012A&fileType=pdf
footprint D8_N (SOIC, 8-Leads, Body 4.9x3.9mm, Pitch 1.27mm, IPC Medium Density)
footprint D8_L (SOIC, 8-Leads, Body 4.9x3.9mm, Pitch 1.27mm, IPC High Density)
footprint D8_M (SOIC, 8-Leads, Body 4.9x3.9mm, Pitch 1.27mm, IPC Low Density)
pins: 1 GND (power) "Ground", 2 IN (power) "Input voltage", 3 IN (power) "Input voltage", 4 ~{EN} (in) "Enable input. Logic low turns on power switch", 5 OUT (power) "Power-switch output", 6 OUT (power) "Power-switch output", 7 OUT (power) "Power-switch output", 8 OUT (power) "Power-switch output"

## TPS2012ADRG4
designator U?
2.0 A, 2.7 to 5.5 V Single High-Side MOSFET Switch IC, No Fault Reporting, 30 mOhms rDS(On),-40 to 85 degC, 8-pin SOIC (D), Green (RoHS & no Sb/Br); Manufacturer: Texas Instruments; PartNumber: TPS2012ADRG4; Adjustable Current Limit(Min)(A): 1.1; Enable/Shutdown: 1L; Iq(Typ)(uA): 73; No Fault Reporting: TRUE; Number of FETs: 1; rDS(on) per FET(Typ)(mOhms): 30; SubFamily: Current Limited Switch; Vin(Max)(V): 5.5; Vin(Min)(V): 2.7; DatasheetVersion: SLVS189C; PackageVersion: revM, Jun-2011; PackageReference: D8; PackageDescription: 8-Pin Plastic Small Outline Integrated Circuit, 4.9 x 3.9 mm, Pitch 1.27 mm Pitch; Supplier 1: Digi-Key; Supplier Part Number 1: TPS2012ADRG4-ND; Supplier 2: Newark; Supplier Part Number 2: 54K1522; Supplier 3: Mouser; Supplier Part Number 3: 595-TPS2012ADRG4; Eco-Plan: Green (RoHS & no Sb/Br); Single: TRUE; Mounting Technology: Surface Mount; Code_JEDEC: MS-012AA; ComponentLink1Description: Datasheet; ComponentLink1URL: http://www.ti.com/general/docs/lit/getliterature.tsp?genericPartNumber=TPS2012A&fileType=pdf
footprint D8_N (SOIC, 8-Leads, Body 4.9x3.9mm, Pitch 1.27mm, IPC Medium Density)
footprint D8_L (SOIC, 8-Leads, Body 4.9x3.9mm, Pitch 1.27mm, IPC High Density)
footprint D8_M (SOIC, 8-Leads, Body 4.9x3.9mm, Pitch 1.27mm, IPC Low Density)
pins: 1 GND (power) "Ground", 2 IN (power) "Input voltage", 3 IN (power) "Input voltage", 4 ~{EN} (in) "Enable input. Logic low turns on power switch", 5 OUT (power) "Power-switch output", 6 OUT (power) "Power-switch output", 7 OUT (power) "Power-switch output", 8 OUT (power) "Power-switch output"

## TPS2012D
designator U?
2.0 A, 2.7 to 5.5 V Single High-Side MOSFET Switch IC, No Fault Reporting, 75 mOhms rDS(On), -40 to 125 degC, 8-pin SOIC (D), Green (RoHS & no Sb/Br); Manufacturer: Texas Instruments; PartNumber: TPS2012D; Adjustable Current Limit(Min)(A): 1.1; Enable/Shutdown: 1L; Iq(Typ)(uA): 73; No Fault Reporting: TRUE; Number of FETs: 1; rDS(on) per FET(Typ)(mOhms): 75; SubFamily: Current Limited Switch; Vin(Max)(V): 5.5; Vin(Min)(V): 2.7; DatasheetVersion: SLVS097A; PackageVersion: revM, Jun-2011; PackageReference: D8; PackageDescription: 8-Pin Plastic Small Outline Integrated Circuit, 4.9 x 3.9 mm, Pitch 1.27 mm Pitch; Supplier 1: Digi-Key; Supplier Part Number 1: 296-1957-5-ND; Supplier 2: Newark; Supplier Part Number 2: 52F2790; Supplier 3: Mouser; Supplier Part Number 3: 595-TPS2012D; Eco-Plan: Green (RoHS & no Sb/Br); Single: TRUE; Mounting Technology: Surface Mount; Code_JEDEC: MS-012AA; ComponentLink1Description: Datasheet; ComponentLink1URL: http://www.ti.com/general/docs/lit/getliterature.tsp?genericPartNumber=TPS2012&fileType=pdf
footprint D8_N (SOIC, 8-Leads, Body 4.9x3.9mm, Pitch 1.27mm, IPC Medium Density)
footprint D8_L (SOIC, 8-Leads, Body 4.9x3.9mm, Pitch 1.27mm, IPC High Density)
footprint D8_M (SOIC, 8-Leads, Body 4.9x3.9mm, Pitch 1.27mm, IPC Low Density)
pins: 1 GND (power) "Ground", 2 IN (power) "Input voltage", 3 IN (power) "Input voltage", 4 ~{EN} (in) "Enable input. Logic low turns power switch on", 5 OUT (power) "Power-switch output", 6 OUT (power) "Power-switch output", 7 OUT (power) "Power-switch output", 8 OUT (power) "Power-switch output"

## TPS2012DG4
designator U?
2.0 A, 2.7 to 5.5 V Single High-Side MOSFET Switch IC, No Fault Reporting, 75 mOhms rDS(On), -40 to 125 degC, 8-pin SOIC (D), Green (RoHS & no Sb/Br); Manufacturer: Texas Instruments; PartNumber: TPS2012DG4; Adjustable Current Limit(Min)(A): 1.1; Enable/Shutdown: 1L; Iq(Typ)(uA): 73; No Fault Reporting: TRUE; Number of FETs: 1; rDS(on) per FET(Typ)(mOhms): 75; SubFamily: Current Limited Switch; Vin(Max)(V): 5.5; Vin(Min)(V): 2.7; DatasheetVersion: SLVS097A; PackageVersion: revM, Jun-2011; PackageReference: D8; PackageDescription: 8-Pin Plastic Small Outline Integrated Circuit, 4.9 x 3.9 mm, Pitch 1.27 mm Pitch; Supplier 1: Digi-Key; Supplier Part Number 1: TPS2012DG4-ND; Supplier 2: Newark; Supplier Part Number 2: 61K1863; Supplier 3: Mouser; Supplier Part Number 3: 595-TPS2012DG4; Eco-Plan: Green (RoHS & no Sb/Br); Single: TRUE; Mounting Technology: Surface Mount; Code_JEDEC: MS-012AA; ComponentLink1Description: Datasheet; ComponentLink1URL: http://www.ti.com/general/docs/lit/getliterature.tsp?genericPartNumber=TPS2012&fileType=pdf
footprint D8_N (SOIC, 8-Leads, Body 4.9x3.9mm, Pitch 1.27mm, IPC Medium Density)
footprint D8_L (SOIC, 8-Leads, Body 4.9x3.9mm, Pitch 1.27mm, IPC High Density)
footprint D8_M (SOIC, 8-Leads, Body 4.9x3.9mm, Pitch 1.27mm, IPC Low Density)
pins: 1 GND (power) "Ground", 2 IN (power) "Input voltage", 3 IN (power) "Input voltage", 4 ~{EN} (in) "Enable input. Logic low turns power switch on", 5 OUT (power) "Power-switch output", 6 OUT (power) "Power-switch output", 7 OUT (power) "Power-switch output", 8 OUT (power) "Power-switch output"

## TPS2012DR
designator U?
2.0 A, 2.7 to 5.5 V Single High-Side MOSFET Switch IC, No Fault Reporting, 75 mOhms rDS(On), -40 to 125 degC, 8-pin SOIC (D), Green (RoHS & no Sb/Br); Manufacturer: Texas Instruments; PartNumber: TPS2012DR; Adjustable Current Limit(Min)(A): 1.1; Enable/Shutdown: 1L; Iq(Typ)(uA): 73; No Fault Reporting: TRUE; Number of FETs: 1; rDS(on) per FET(Typ)(mOhms): 75; SubFamily: Current Limited Switch; Vin(Max)(V): 5.5; Vin(Min)(V): 2.7; DatasheetVersion: SLVS097A; PackageVersion: revM, Jun-2011; PackageReference: D8; PackageDescription: 8-Pin Plastic Small Outline Integrated Circuit, 4.9 x 3.9 mm, Pitch 1.27 mm Pitch; Supplier 1: Digi-Key; Supplier Part Number 1: TPS2012DR-ND; Supplier 2: Newark; Supplier Part Number 2: 76C9951; Supplier 3: Mouser; Supplier Part Number 3: 595-TPS2012DR; Eco-Plan: Green (RoHS & no Sb/Br); Single: TRUE; Mounting Technology: Surface Mount; Code_JEDEC: MS-012AA; ComponentLink1Description: Datasheet; ComponentLink1URL: http://www.ti.com/general/docs/lit/getliterature.tsp?genericPartNumber=TPS2012&fileType=pdf
footprint D8_N (SOIC, 8-Leads, Body 4.9x3.9mm, Pitch 1.27mm, IPC Medium Density)
footprint D8_L (SOIC, 8-Leads, Body 4.9x3.9mm, Pitch 1.27mm, IPC High Density)
footprint D8_M (SOIC, 8-Leads, Body 4.9x3.9mm, Pitch 1.27mm, IPC Low Density)
pins: 1 GND (power) "Ground", 2 IN (power) "Input voltage", 3 IN (power) "Input voltage", 4 ~{EN} (in) "Enable input. Logic low turns power switch on", 5 OUT (power) "Power-switch output", 6 OUT (power) "Power-switch output", 7 OUT (power) "Power-switch output", 8 OUT (power) "Power-switch output"

## TPS2012DRG4
designator U?
2.0 A, 2.7 to 5.5 V Single High-Side MOSFET Switch IC, No Fault Reporting, 75 mOhms rDS(On), -40 to 125 degC, 8-pin SOIC (D), Green (RoHS & no Sb/Br); Manufacturer: Texas Instruments; PartNumber: TPS2012DRG4; Adjustable Current Limit(Min)(A): 1.1; Enable/Shutdown: 1L; Iq(Typ)(uA): 73; No Fault Reporting: TRUE; Number of FETs: 1; rDS(on) per FET(Typ)(mOhms): 75; SubFamily: Current Limited Switch; Vin(Max)(V): 5.5; Vin(Min)(V): 2.7; DatasheetVersion: SLVS097A; PackageVersion: revM, Jun-2011; PackageReference: D8; PackageDescription: 8-Pin Plastic Small Outline Integrated Circuit, 4.9 x 3.9 mm, Pitch 1.27 mm Pitch; Supplier 1: Digi-Key; Supplier Part Number 1: TPS2012DRG4-ND; Supplier 2: Newark; Supplier Part Number 2: 58K6887; Supplier 3: Mouser; Supplier Part Number 3: 595-TPS2012DRG4; Eco-Plan: Green (RoHS & no Sb/Br); Single: TRUE; Mounting Technology: Surface Mount; Code_JEDEC: MS-012AA; ComponentLink1Description: Datasheet; ComponentLink1URL: http://www.ti.com/general/docs/lit/getliterature.tsp?genericPartNumber=TPS2012&fileType=pdf
footprint D8_N (SOIC, 8-Leads, Body 4.9x3.9mm, Pitch 1.27mm, IPC Medium Density)
footprint D8_L (SOIC, 8-Leads, Body 4.9x3.9mm, Pitch 1.27mm, IPC High Density)
footprint D8_M (SOIC, 8-Leads, Body 4.9x3.9mm, Pitch 1.27mm, IPC Low Density)
pins: 1 GND (power) "Ground", 2 IN (power) "Input voltage", 3 IN (power) "Input voltage", 4 ~{EN} (in) "Enable input. Logic low turns power switch on", 5 OUT (power) "Power-switch output", 6 OUT (power) "Power-switch output", 7 OUT (power) "Power-switch output", 8 OUT (power) "Power-switch output"

## TPS2013AD
designator U?
2.6 A, 2.7 to 5.5 V Single High-Side MOSFET Switch IC, No Fault Reporting, 30 mOhms rDS(On), 8-pin SOIC (D), Green (RoHS & no Sb/Br); Manufacturer: Texas Instruments; PartNumber: TPS2013AD; Adjustable Current Limit(Min)(A): 1.65; Enable/Shutdown: 1L; Iq(Typ)(uA): 73; No Fault Reporting: TRUE; Number of FETs: 1; rDS(on) per FET(Typ)(mOhms): 30; SubFamily: Current Limited Switch; Vin(Max)(V): 5.5; Vin(Min)(V): 2.7; DatasheetVersion: SLVS189C; PackageVersion: revM, Jun-2011; PackageReference: D8; PackageDescription: 8-Pin Plastic Small Outline Integrated Circuit, 4.9 x 3.9 mm, Pitch 1.27 mm Pitch; Supplier 1: Digi-Key; Supplier Part Number 1: 296-2558-5-ND; Supplier 2: Newark; Supplier Part Number 2: 96B3626; Supplier 3: Mouser; Supplier Part Number 3: 595-TPS2013AD; Eco-Plan: Green (RoHS & no Sb/Br); Single: TRUE; Mounting Technology: Surface Mount; Code_JEDEC: MS-012AA; ComponentLink1Description: Datasheet; ComponentLink1URL: http://www.ti.com/general/docs/lit/getliterature.tsp?genericPartNumber=TPS2013A&fileType=pdf
footprint D8_N (SOIC, 8-Leads, Body 4.9x3.9mm, Pitch 1.27mm, IPC Medium Density)
footprint D8_L (SOIC, 8-Leads, Body 4.9x3.9mm, Pitch 1.27mm, IPC High Density)
footprint D8_M (SOIC, 8-Leads, Body 4.9x3.9mm, Pitch 1.27mm, IPC Low Density)
pins: 1 GND (power) "Ground", 2 IN (power) "Input voltage", 3 IN (power) "Input voltage", 4 ~{EN} (in) "Enable input. Logic low turns on power switch", 5 OUT (power) "Power-switch output", 6 OUT (power) "Power-switch output", 7 OUT (power) "Power-switch output", 8 OUT (power) "Power-switch output"

## TPS2013ADG4
designator U?
2.6 A, 2.7 to 5.5 V Single High-Side MOSFET Switch IC, No Fault Reporting, 30 mOhms rDS(On), 8-pin SOIC (D), Green (RoHS & no Sb/Br); Manufacturer: Texas Instruments; PartNumber: TPS2013ADG4; Adjustable Current Limit(Min)(A): 1.65; Enable/Shutdown: 1L; Iq(Typ)(uA): 73; No Fault Reporting: TRUE; Number of FETs: 1; rDS(on) per FET(Typ)(mOhms): 30; SubFamily: Current Limited Switch; Vin(Max)(V): 5.5; Vin(Min)(V): 2.7; DatasheetVersion: SLVS189C; PackageVersion: revM, Jun-2011; PackageReference: D8; PackageDescription: 8-Pin Plastic Small Outline Integrated Circuit, 4.9 x 3.9 mm, Pitch 1.27 mm Pitch; Supplier 1: Digi-Key; Supplier Part Number 1: TPS2013ADG4-ND; Supplier 2: Newark; Supplier Part Number 2: 58K6888; Supplier 3: Mouser; Supplier Part Number 3: 595-TPS2013ADG4; Eco-Plan: Green (RoHS & no Sb/Br); Single: TRUE; Mounting Technology: Surface Mount; Code_JEDEC: MS-012AA; ComponentLink1Description: Datasheet; ComponentLink1URL: http://www.ti.com/general/docs/lit/getliterature.tsp?genericPartNumber=TPS2013A&fileType=pdf
footprint D8_N (SOIC, 8-Leads, Body 4.9x3.9mm, Pitch 1.27mm, IPC Medium Density)
footprint D8_L (SOIC, 8-Leads, Body 4.9x3.9mm, Pitch 1.27mm, IPC High Density)
footprint D8_M (SOIC, 8-Leads, Body 4.9x3.9mm, Pitch 1.27mm, IPC Low Density)
pins: 1 GND (power) "Ground", 2 IN (power) "Input voltage", 3 IN (power) "Input voltage", 4 ~{EN} (in) "Enable input. Logic low turns on power switch", 5 OUT (power) "Power-switch output", 6 OUT (power) "Power-switch output", 7 OUT (power) "Power-switch output", 8 OUT (power) "Power-switch output"

## TPS2013ADR
designator U?
2.6 A, 2.7 to 5.5 V Single High-Side MOSFET Switch IC, No Fault Reporting, 30 mOhms rDS(On), 8-pin SOIC (D), Green (RoHS & no Sb/Br); Manufacturer: Texas Instruments; PartNumber: TPS2013ADR; Adjustable Current Limit(Min)(A): 1.65; Enable/Shutdown: 1L; Iq(Typ)(uA): 73; No Fault Reporting: TRUE; Number of FETs: 1; rDS(on) per FET(Typ)(mOhms): 30; SubFamily: Current Limited Switch; Vin(Max)(V): 5.5; Vin(Min)(V): 2.7; DatasheetVersion: SLVS189C; PackageVersion: revM, Jun-2011; PackageReference: D8; PackageDescription: 8-Pin Plastic Small Outline Integrated Circuit, 4.9 x 3.9 mm, Pitch 1.27 mm Pitch; Supplier 1: Digi-Key; Supplier Part Number 1: TPS2013ADR-ND; Supplier 2: Newark; Supplier Part Number 2: 76C9953; Supplier 3: Mouser; Supplier Part Number 3: 595-TPS2013ADR; Eco-Plan: Green (RoHS & no Sb/Br); Single: TRUE; Mounting Technology: Surface Mount; Code_JEDEC: MS-012AA; ComponentLink1Description: Datasheet; ComponentLink1URL: http://www.ti.com/general/docs/lit/getliterature.tsp?genericPartNumber=TPS2013A&fileType=pdf
footprint D8_N (SOIC, 8-Leads, Body 4.9x3.9mm, Pitch 1.27mm, IPC Medium Density)
footprint D8_L (SOIC, 8-Leads, Body 4.9x3.9mm, Pitch 1.27mm, IPC High Density)
footprint D8_M (SOIC, 8-Leads, Body 4.9x3.9mm, Pitch 1.27mm, IPC Low Density)
pins: 1 GND (power) "Ground", 2 IN (power) "Input voltage", 3 IN (power) "Input voltage", 4 ~{EN} (in) "Enable input. Logic low turns on power switch", 5 OUT (power) "Power-switch output", 6 OUT (power) "Power-switch output", 7 OUT (power) "Power-switch output", 8 OUT (power) "Power-switch output"

## TPS2013ADRG4
designator U?
2.6 A, 2.7 to 5.5 V Single High-Side MOSFET Switch IC, No Fault Reporting, 30 mOhms rDS(On), 8-pin SOIC (D), Green (RoHS & no Sb/Br); Manufacturer: Texas Instruments; PartNumber: TPS2013ADRG4; Adjustable Current Limit(Min)(A): 1.65; Enable/Shutdown: 1L; Iq(Typ)(uA): 73; No Fault Reporting: TRUE; Number of FETs: 1; rDS(on) per FET(Typ)(mOhms): 30; SubFamily: Current Limited Switch; Vin(Max)(V): 5.5; Vin(Min)(V): 2.7; DatasheetVersion: SLVS189C; PackageVersion: revM, Jun-2011; PackageReference: D8; PackageDescription: 8-Pin Plastic Small Outline Integrated Circuit, 4.9 x 3.9 mm, Pitch 1.27 mm Pitch; Supplier 1: Digi-Key; Supplier Part Number 1: TPS2013ADRG4-ND; Supplier 2: Newark; Supplier Part Number 2: 54K1524; Supplier 3: Mouser; Supplier Part Number 3: 595-TPS2013ADRG4; Eco-Plan: Green (RoHS & no Sb/Br); Single: TRUE; Mounting Technology: Surface Mount; Code_JEDEC: MS-012AA; ComponentLink1Description: Datasheet; ComponentLink1URL: http://www.ti.com/general/docs/lit/getliterature.tsp?genericPartNumber=TPS2013A&fileType=pdf
footprint D8_N (SOIC, 8-Leads, Body 4.9x3.9mm, Pitch 1.27mm, IPC Medium Density)
footprint D8_L (SOIC, 8-Leads, Body 4.9x3.9mm, Pitch 1.27mm, IPC High Density)
footprint D8_M (SOIC, 8-Leads, Body 4.9x3.9mm, Pitch 1.27mm, IPC Low Density)
pins: 1 GND (power) "Ground", 2 IN (power) "Input voltage", 3 IN (power) "Input voltage", 4 ~{EN} (in) "Enable input. Logic low turns on power switch", 5 OUT (power) "Power-switch output", 6 OUT (power) "Power-switch output", 7 OUT (power) "Power-switch output", 8 OUT (power) "Power-switch output"